# Altium footprint library 28Pins_Project_V1I1.PcbLib: 27 footprints (part 1 of 2)
Each footprint in its own frame and in the unit in brackets; x right, y up, seen from the top. Pads: shape width x height; smd on the part's side, far side on the other; paste and mask are expansions set on the pad; w line width, h text height; cw(c..) or ccw(c..) is an arc to the next point about the centre after c.
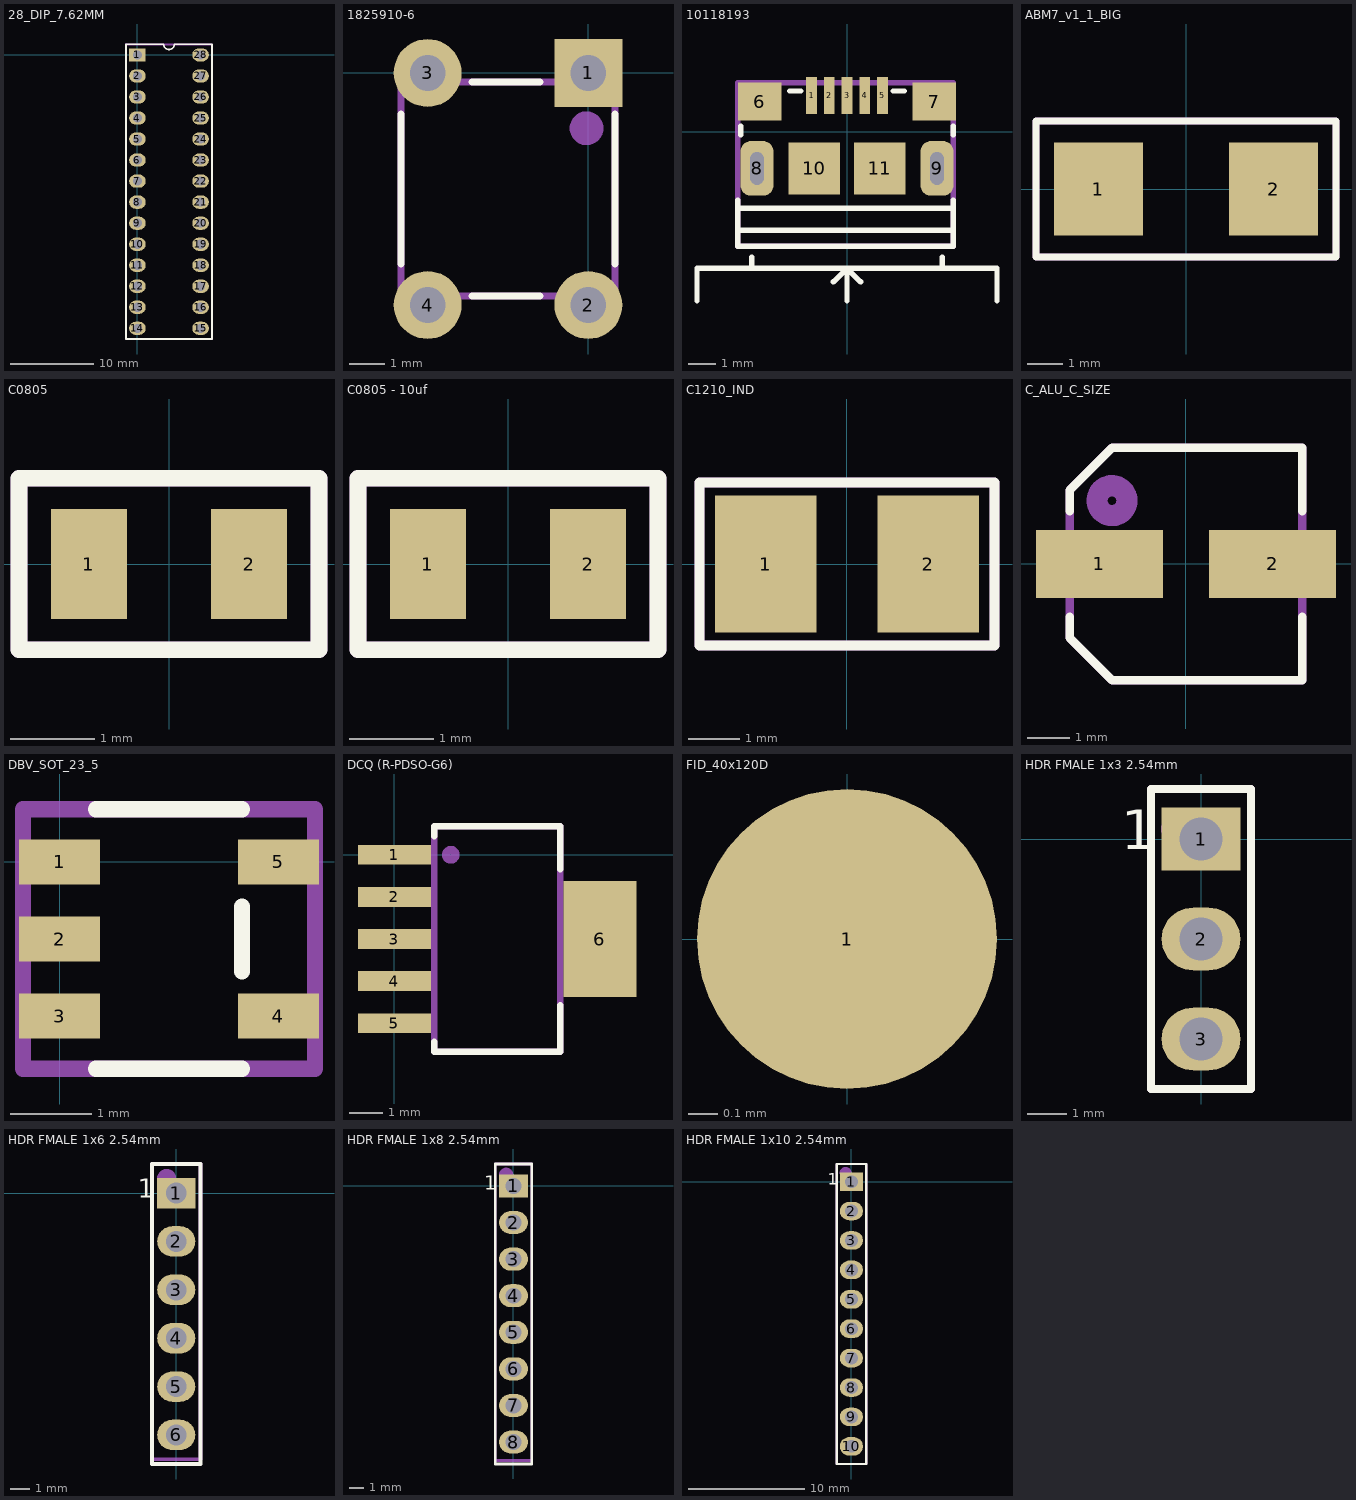
[diagram p0: the footprints below, top view; thin cyan lines are the x and y axes]

## 28_DIP_7.62MM [mm]
pads (28):
  rect 2x1.6 hole 1.1: 1(0,0)
  oval 2x1.6 hole 1.1: 2(0,-2.54) 3(0,-5.08) 4(0,-7.62) 5(0,-10.16) 6(0,-12.7) 7(0,-15.24) 8(0,-17.78) 9(0,-20.32) 10(0,-22.86) 11(0,-25.4) 12(0,-27.94) 13(0,-30.48) 14(0,-33.02) 15(7.62,-33.02) 16(7.62,-30.48) 17(7.62,-27.94) 18(7.62,-25.4) 19(7.62,-22.86) 20(7.62,-20.32) 21(7.62,-17.78) 22(7.62,-15.24) 23(7.62,-12.7) 24(7.62,-10.16) 25(7.62,-7.62) 26(7.62,-5.08) 27(7.62,-2.54) 28(7.62,0)
Top Overlay:
  lines w0.2: -1.39,1.27 -1.39,-34.31 9.01,-34.31 9.01,1.27 ; -1.39,1.29 3.175,1.29 ccw(c3.81,1.29) 4.445,1.29 9.01,1.29
Mechanical 29:
  circle w0.5: c0,0 r0.237
  lines w0.254: -1.39,1.27 9.01,1.27 9.01,-34.31 -1.39,-34.31 -1.39,1.29
  text "'.Designator'" at 4.91,-24.71 h3
3D body "User Library-28 pin dip.step": height 7.55, standoff 1.33, extent -0.164,-34.381 7.71,1.56

## 28_DIP_7.62mm_SOCKET [mm]
3D body "dil_socket.stp": height 4.2, standoff -3.17, extent -1.14,-34.26 8.96,1.24

## 1825910-6 [mm]
pads (4):
  rect 1.9x1.9 hole 1: 1(0,0)
  round 1.9 hole 1: 2(0,-6.5) 3(-4.5,0) 4(-4.5,-6.5)
Top Overlay:
  lines w0.2: -5.25,-5.35 -5.25,-1.15 ; -3.25,-6.25 -1.35,-6.25 ; -3.25,-0.25 -1.35,-0.25 ; 0.75,-5.35 0.75,-1.15
Mechanical 29:
  circle w0.5: c-0.05,-1.55 r0.224
  lines w0.2: -5.25,-6.25 0.75,-6.25 0.75,-0.25 -5.25,-0.25 -5.25,-6.25
  text "'.Designator'" at -4.35,-4.05 h1.52
3D body "User Library-FSM4JLH(1825910-5).step": height 5.01, standoff -3.5, extent -5.245,-7.148 0.745,0.65

## 10118193 [mm]
pads (11):
  rect 0.4x1.35 smd mask+0.05: 1(-1.3,1.338) 2(-0.65,1.338) 3(0,1.338) 4(0.65,1.338) 5(1.3,1.338)
  rect 1.6x1.4 smd: 6(-3.2,1.113) 7(3.2,1.113)
  rrect60% 1.2x2 hole 0.5 slot 1.2 at 90 deg: 8(-3.3,-1.337) 9(3.3,-1.337)
  rect 1.9x1.9 smd: 10(-1.2,-1.337) 11(1.2,-1.337)
Top Overlay:
  lines w0.2: -5.5,-6.2 -5.5,-5 5.5,-5 5.5,-6.2 ; -4,-3.6 3.9,-3.6 ; -4,-2.8 3.9,-2.8 ; -4,-2.5 -4,-4.2 3.9,-4.2 3.9,-2.5 ; -3.9,-0.1 -3.9,0.2 ; -3.5,-5 -3.5,-4.6 ; -2.1,1.5 -1.7,1.5 ; -0.5,-5.5 0,-5 0,-6.2 ; 0,-5.1 0.1,-5.1 0.5,-5.5 ; 1.7,1.5 2.1,1.5 ; 3.5,-5 3.5,-4.6 ; 3.9,-0.1 3.9,0.2
Mechanical 29:
  lines w0.2: -4,-4.2 3.9,-4.2 3.9,1.8 -4,1.8 -4,-4.2
  text "'.Designator'" at -3.1,-1.9 h1.52
3D body "10118193-0001lfc.stp": height 2.88, standoff -0.92, extent -3.95,-4.262 3.907,1.52

## ABM7_v1_1_BIG [mm]
pads (2):
  rect 2.5x2.6 smd: 1(-2.45,0) 2(2.45,0)
Top Overlay:
  lines w0.2: -4.2,-1.9 4.2,-1.9 4.2,1.9 -4.2,1.9 -4.2,-1.9
Mechanical 29:
  lines w0.2: -4.2,-1.9 4.2,-1.9 4.2,1.9 -4.2,1.9 -4.2,-1.9
  text "'.Designator'" at -2.7,-0.5 h1.52
3D body "ABM7.STEP": height 1.41, standoff 0.01, extent -2.997,-1.753 2.997,1.752
3D body: height 1.45, standoff 1.4, extent -1.7,-1.5 1.7,1.5

## C0805 [mm]
pads (2):
  rect 0.9x1.3 smd: 1(-0.95,0) 2(0.95,0)
Top Overlay:
  lines w0.2: -1.778,-1.016 1.778,-1.016 1.778,1.016 -1.778,1.016 -1.778,-1.016
Mechanical 29:
  lines w0.2: -1.778,-1.016 1.778,-1.016 1.778,1.016 -1.778,1.016 -1.778,-1.016
  text "'.Designator'" at -1.524,-0.508 h0.6
3D body "CAPC2012X95N EIA 0805.step": height 0.96, standoff 0.01, extent -1,-0.6 1,0.6

## C0805 - 10uf [mm]
pads (2):
  rect 0.9x1.3 smd: 1(-0.95,0) 2(0.95,0)
Top Overlay:
  lines w0.2: -1.778,-1.016 -1.778,1.016 1.778,1.016 1.778,-1.016 -1.778,-1.016
Mechanical 29:
  lines w0.2: -1.778,-1.016 -1.778,1.016 1.778,1.016 1.778,-1.016 -1.778,-1.016
  text "'.Designator'" at -1.524,-0.508 h0.6
3D body "CAPC2012X145N EIA 0805.step": height 1.46, standoff 0.01, extent -1,-0.6 1,0.6

## C1210_IND [mm]
pads (2):
  rect 2x2.7 smd: 1(-1.6,0) 2(1.6,0)
Top Overlay:
  lines w0.2: -2.9,-1.6 -2.9,1.6 2.9,1.6 2.9,-1.6 -2.9,-1.6
Mechanical 29:
  lines w0.2: -2.9,-1.6 -2.9,1.6 2.9,1.6 2.9,-1.6 -2.9,-1.6
  text "'.Designator'" at -2.5,-0.7 h1
3D body: height 2.7, standoff 0, extent 1.3,-1.25 1.6,1.25
3D body: height 2.7, standoff 0, extent -1.6,-1.25 -1.3,1.25
3D body: height 2.7, standoff 0, extent -1.3,-1.25 1.3,1.25

## C_ALU_C_SIZE [mm]
pads (2):
  rect 3x1.6 smd: 1(-2.05,0) 2(2.05,0)
Top Overlay:
  lines w0.2: -2.75,-1.25 -2.75,-1.75 -1.75,-2.75 2.75,-2.75 2.75,-1.25 ; -2.75,1.25 -2.75,1.75 -1.75,2.75 2.75,2.75 2.75,1.25
Mechanical 29:
  circle w0.5: c-1.75,1.5 r0.354
  lines w0.2: -2.75,-1.75 -1.75,-2.75 2.75,-2.75 2.75,2.75 -1.75,2.75 -2.75,1.75 -2.75,1.25 -2.75,-1.75
  text "'.Designator'" at -1.75,-2 h1.3
3D body "User Library-capacitor size C.step": height 5.41, standoff -0.01, extent -2.95,-2.65 2.95,2.65

## DBV_SOT_23_5 [mm]
pads (5):
  rect 1x0.55 smd: 1(0,0) 2(0,-0.95) 3(0,-1.9) 4(2.7,-1.9) 5(2.7,0)
Top Overlay:
  lines w0.2: 0.45,-2.55 2.25,-2.55 ; 0.45,0.65 2.25,0.65 ; 2.25,-1.35 2.25,-0.55
Mechanical 29:
  circle w0.254: c0,0 r0.1
  lines w0.2: -0.45,-2.55 3.15,-2.55 3.15,0.65 -0.45,0.65 -0.45,-2.55
  text "'.Designator'" at -0.15,-1.55 h0.6
3D body "User Library-TPS79333DBVR.step": height 1.61, standoff -0.01, extent -0.163,-2.475 2.864,0.575

## DCQ (R-PDSO-G6) [mm]
pads (6):
  rect 2.2x0.6 smd: 1(0,0) 2(0,-1.27) 3(0,-2.54) 4(0,-3.81) 5(0,-5.08)
  rect 2.2x3.5 smd: 6(6.2,-2.54)
Top Overlay:
  lines w0.2: 1.2,-5.64 1.2,-5.94 5,-5.94 5,-4.54 ; 1.2,0.56 1.2,0.86 5,0.86 5,-0.44
Mechanical 29:
  circle w0.254: c1.7,0 r0.141
  lines w0.2: 1.2,-5.94 5,-5.94 5,0.86 1.2,0.86 1.2,-5.94
  text "'.Designator'" at 1.5,-3.6 h1.5
3D body "User Library-TPS73701DCQ.step": height 1.79, standoff -0.01, extent -0.53,-5.815 6.73,0.735

## FID_40x120D [mil]
pads (1):
  round 40 smd paste-40 mask+40: 1(0,0)

## HDR FMALE 1x3 2.54mm [mm]
pads (3):
  rect 2x1.6 hole 1.1: 1(0,0)
  oval 2x1.6 hole 1.1: 2(0,-2.54) 3(0,-5.08)
Top Overlay:
  lines w0.2: -1.27,-6.35 -1.27,1.27 1.27,1.27 1.27,-6.35 -1.27,-6.35
  text "1" at -2.032,-0.254 h1
Mechanical 29:
  circle w0.5: c-0.508,0.254 r0.254
  lines w0.2: -1.27,-6.35 -1.27,1.27 1.27,1.27 1.27,-6.35 -1.27,-6.35
  text "'.Designator'" at 0.762,-4.826 h1.52
3D body "HDR_1x3_White.stp": height 8.39, standoff -3.11, extent -1.205,-6.15 1.205,1.07

## HDR FMALE 1x6 2.54mm [mm]
pads (6):
  rect 2x1.6 hole 1.1: 1(0,0)
  oval 2x1.6 hole 1.1: 2(0,-2.54) 3(0,-5.08) 4(0,-7.62) 5(0,-10.16) 6(0,-12.7)
Top Overlay:
  lines w0.2: -1.27,-14.224 -1.27,1.524 1.27,1.524 1.27,-14.224 -1.27,-14.224
  text "1" at -2.032,-0.254 h1
Mechanical 29:
  circle w0.5: c-0.508,0.762 r0.254
  lines w0.2: -1.27,-13.97 -1.27,1.524 1.27,1.524 1.27,-13.97 -1.27,-13.97
  text "'.Designator'" at 0.762,-12.7 h1.52
3D body "m20-7820646_asm.stp": height 8.51, standoff -2.99, extent -1.25,-14.17 1.25,1.47

## HDR FMALE 1x8 2.54mm [mm]
pads (8):
  rect 2x1.6 hole 1.1: 1(0,0)
  oval 2x1.6 hole 1.1: 2(0,-2.54) 3(0,-5.08) 4(0,-7.62) 5(0,-10.16) 6(0,-12.7) 7(0,-15.24) 8(0,-17.78)
Top Overlay:
  lines w0.2: -1.27,-19.304 -1.27,1.524 1.27,1.524 1.27,-19.304 -1.27,-19.304
  text "1" at -2.032,-0.254 h1
Mechanical 29:
  circle w0.5: c-0.508,0.762 r0.254
  lines w0.2: -1.27,-19.05 -1.27,1.524 1.27,1.524 1.27,-19.05 -1.27,-19.05
  text "'.Designator'" at 0.762,-17.526 h1.52
3D body "m20-7820842_asm.stp": height 8.51, standoff -2.99, extent -1.25,-19.25 1.25,1.47

## HDR FMALE 1x10 2.54mm [mm]
pads (10):
  rect 2x1.6 hole 1.1: 1(0,0)
  oval 2x1.6 hole 1.1: 2(0,-2.54) 3(0,-5.08) 4(0,-7.62) 5(0,-10.16) 6(0,-12.7) 7(0,-15.24) 8(0,-17.78) 9(0,-20.32) 10(0,-22.86)
Top Overlay:
  lines w0.2: -1.27,-24.384 -1.27,1.524 1.27,1.524 1.27,-24.384 -1.27,-24.384
  text "1" at -2.032,-0.254 h1
Mechanical 29:
  circle w0.5: c-0.508,0.762 r0.254
  lines w0.2: -1.27,-24.384 1.27,-24.384 1.27,1.524 -1.27,1.524 -1.27,-24.384
  text "'.Designator'" at 0.762,-17.78 h1.52
3D body "m20-7821046_asm.stp": height 8.51, standoff -2.99, extent -1.25,-24.33 1.25,1.47